# Altium footprint library Batt.PcbLib: 1 footprints
Each footprint in its own frame and in the unit in brackets; x right, y up, seen from the top. Pads: shape width x height; smd on the part's side, far side on the other; paste and mask are expansions set on the pad; w line width, h text height; cw(c..) or ccw(c..) is an arc to the next point about the centre after c.
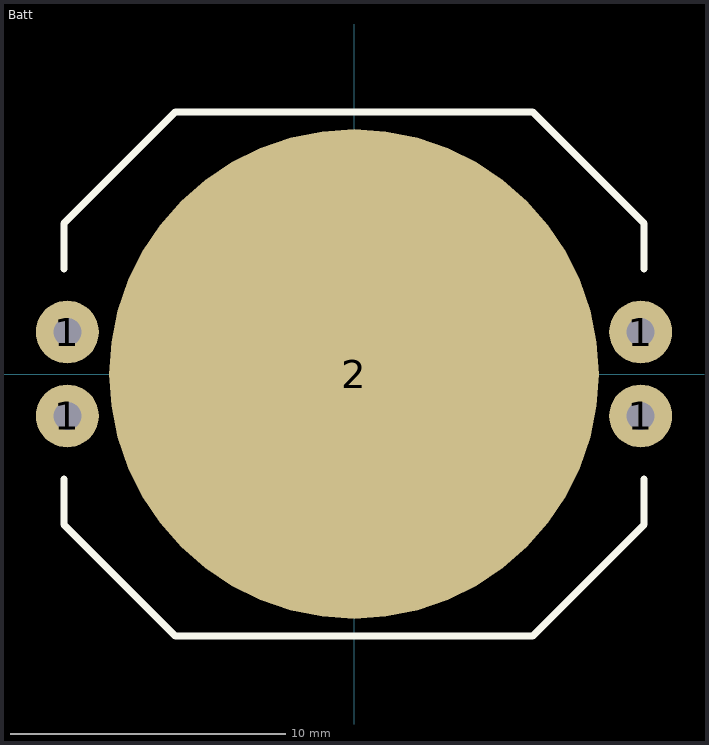
[diagram p0: the footprint, top view; thin cyan lines are the x and y axes]

## Batt [mil]
height 170
pads (5):
  round 90 hole 40: 1(-410,-60) 1(-410,60) 1(410,-60) 1(410,60)
  round 700 smd: 2(0,0)
Top Overlay:
  lines w10: -415,-150 -415,-215 -255,-375 0,-375 255,-375 415,-215 415,-150 ; -415,150 -415,215 -255,375 0,375 255,375 415,215 415,150